# EAGLE library part MAX6955 (library max6955)
MAX6955: 2-Wire Interfaced, 2.7V to 5.5V, LED Display Driver with I/O Expander and Key Scan (According to Datasheet <https://datasheets.maximintegrated.com/en/ds/MAX6955.pdf> at https://datasheets.maximintegrated.com/en/ds/MAX6955.pdf).
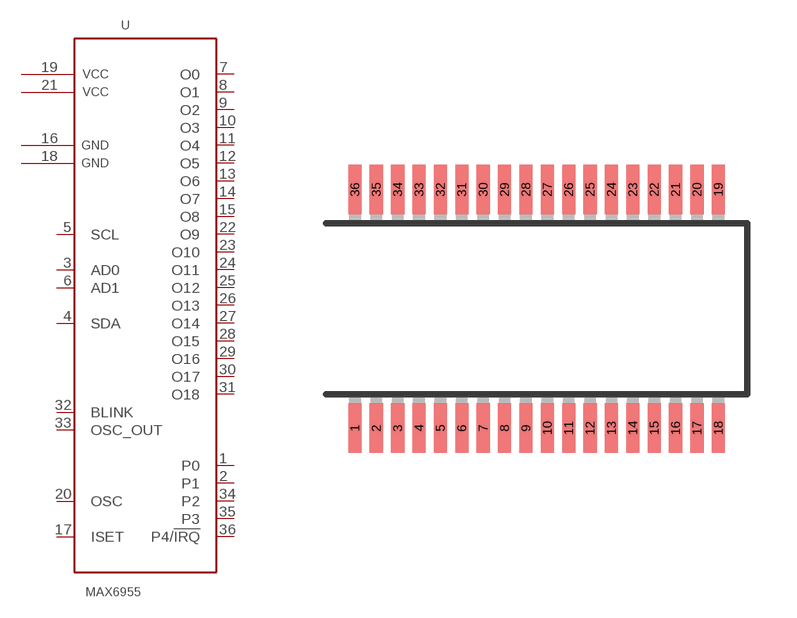
[diagram p0: symbol with the pads of SSOP36; footprint SSOP36]

Designator prefix -

## MAX6955  [SSOP36]
1  P0  out
2  P1  out
3  AD0  in
4  SDA  in
5  SCL  in
6  AD1  in
7  O0  out
8  O1  out
9  O2  out
10  O3  out
11  O4  out
12  O5  out
13  O6  out
14  O7  out
15  O8  out
16  GND  pwr
17  ISET
18  GND  pwr
19  VCC  pwr
20  OSC
21  VCC  pwr
22  O9  out
23  O10  out
24  O11  out
25  O12  out
26  O13  out
27  O14  out
28  O15  out
29  O16  out
30  O17  out
31  O18  out
32  BLINK  out
33  OSC_OUT  out
34  P2  out
35  P3  out
36  P4/!IRQ  out

## Footprint SSOP36 (pad centres in mm)
smd 0.4 x 1.5: 1 -5.495,-3.625; 2 -4.845,-3.625; 3 -4.195,-3.625; 4 -3.545,-3.625; 5 -2.895,-3.625; 6 -2.245,-3.625; 7 -1.595,-3.625; 8 -0.945,-3.625; 9 -0.295,-3.625; 10 0.355,-3.625; 11 1.005,-3.625; 12 1.655,-3.625; 13 2.305,-3.625; 14 2.955,-3.625; 15 3.605,-3.625; 16 4.255,-3.625; 17 4.905,-3.625; 18 5.555,-3.625; 19 5.555,3.625; 20 4.905,3.625; 21 4.255,3.625; 22 3.605,3.625; 23 2.955,3.625; 24 2.305,3.625; 25 1.655,3.625; 26 1.005,3.625; 27 0.355,3.625; 28 -0.295,3.625; 29 -0.945,3.625; 30 -1.595,3.625; 31 -2.245,3.625; 32 -2.895,3.625; 33 -3.545,3.625; 34 -4.195,3.625; 35 -4.845,3.625; 36 -5.495,3.625